# EAGLE library part ADAFRUIT-BNO055-MOUNTING-HOLES (library Adafruit BNO055)
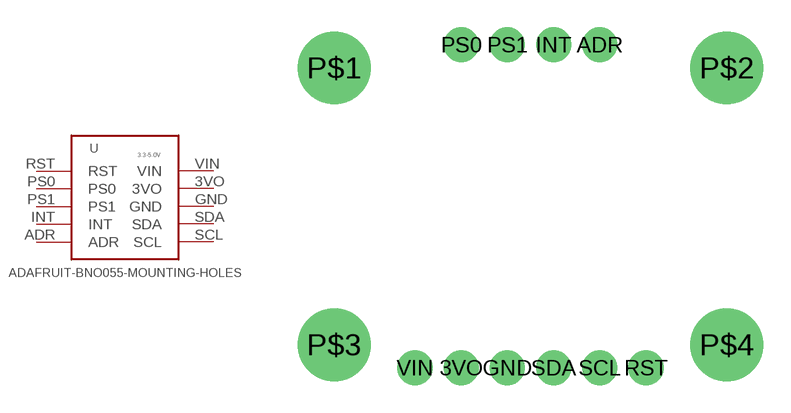
[diagram p0: symbol with the pads of ADAFRUIT-BNO055-MOUNTING-HOLES; footprint ADAFRUIT-BNO055-MOUNTING-HOLES]

Designator prefix -

## ADAFRUIT-BNO055-MOUNTING-HOLES  [ADAFRUIT-BNO055-MOUNTING-HOLES]
3VO  3VO
ADR  ADR
GND  GND
INT  INT
PS0  PS0
PS1  PS1
RST  RST
SCL  SCL
SDA  SDA
VIN  VIN

## Footprint ADAFRUIT-BNO055-MOUNTING-HOLES (pad centres in mm)
drill 1 pad 1.93: 3VO 9.525,1.27; ADR 17.145,19.05; GND 12.065,1.27; INT 14.605,19.05; PS0 9.525,19.05; PS1 12.065,19.05; RST 19.685,1.27; SCL 17.145,1.27; SDA 14.605,1.27; VIN 6.985,1.27
drill 2.5 pad 4: P$1 2.54,17.78; P$2 24.13,17.78; P$3 2.54,2.54; P$4 24.13,2.54